# EAGLE library part RELAY (library Xbee)
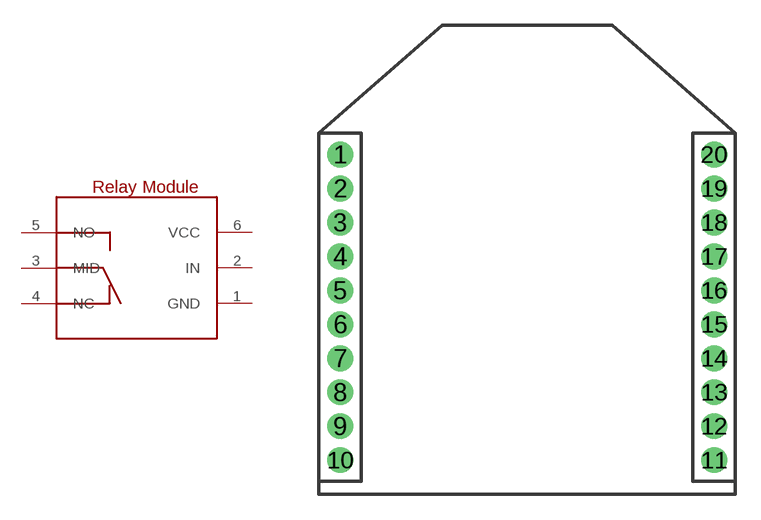
[diagram p1: symbol with the pads of XBEE-1; footprint XBEE-1]

Designator prefix R$

## RELAY  [XBEE-1]
1  GND
2  IN
3  MID
4  NC
5  NO
6  VCC

## Footprint XBEE-1 (pad centres in mm)
drill 0.8 pad 1.524: 1 -11,20; 2 -11,18; 3 -11,16; 4 -11,14; 5 -11,12; 6 -11,10; 7 -11,8; 8 -11,6; 9 -11,4; 10 -11,2; 11 11,2; 12 11,4; 13 11,6; 14 11,8; 15 11,10; 16 11,12; 17 11,14; 18 11,16; 19 11,18; 20 11,20